# Altium footprint library conn_sw.PCBLIB: 173 footprints (part 5 of 11)
Each footprint in its own frame and in the unit in brackets; x right, y up, seen from the top. Pads: shape width x height; smd on the part's side, far side on the other; paste and mask are expansions set on the pad; w line width, h text height; cw(c..) or ccw(c..) is an arc to the next point about the centre after c.
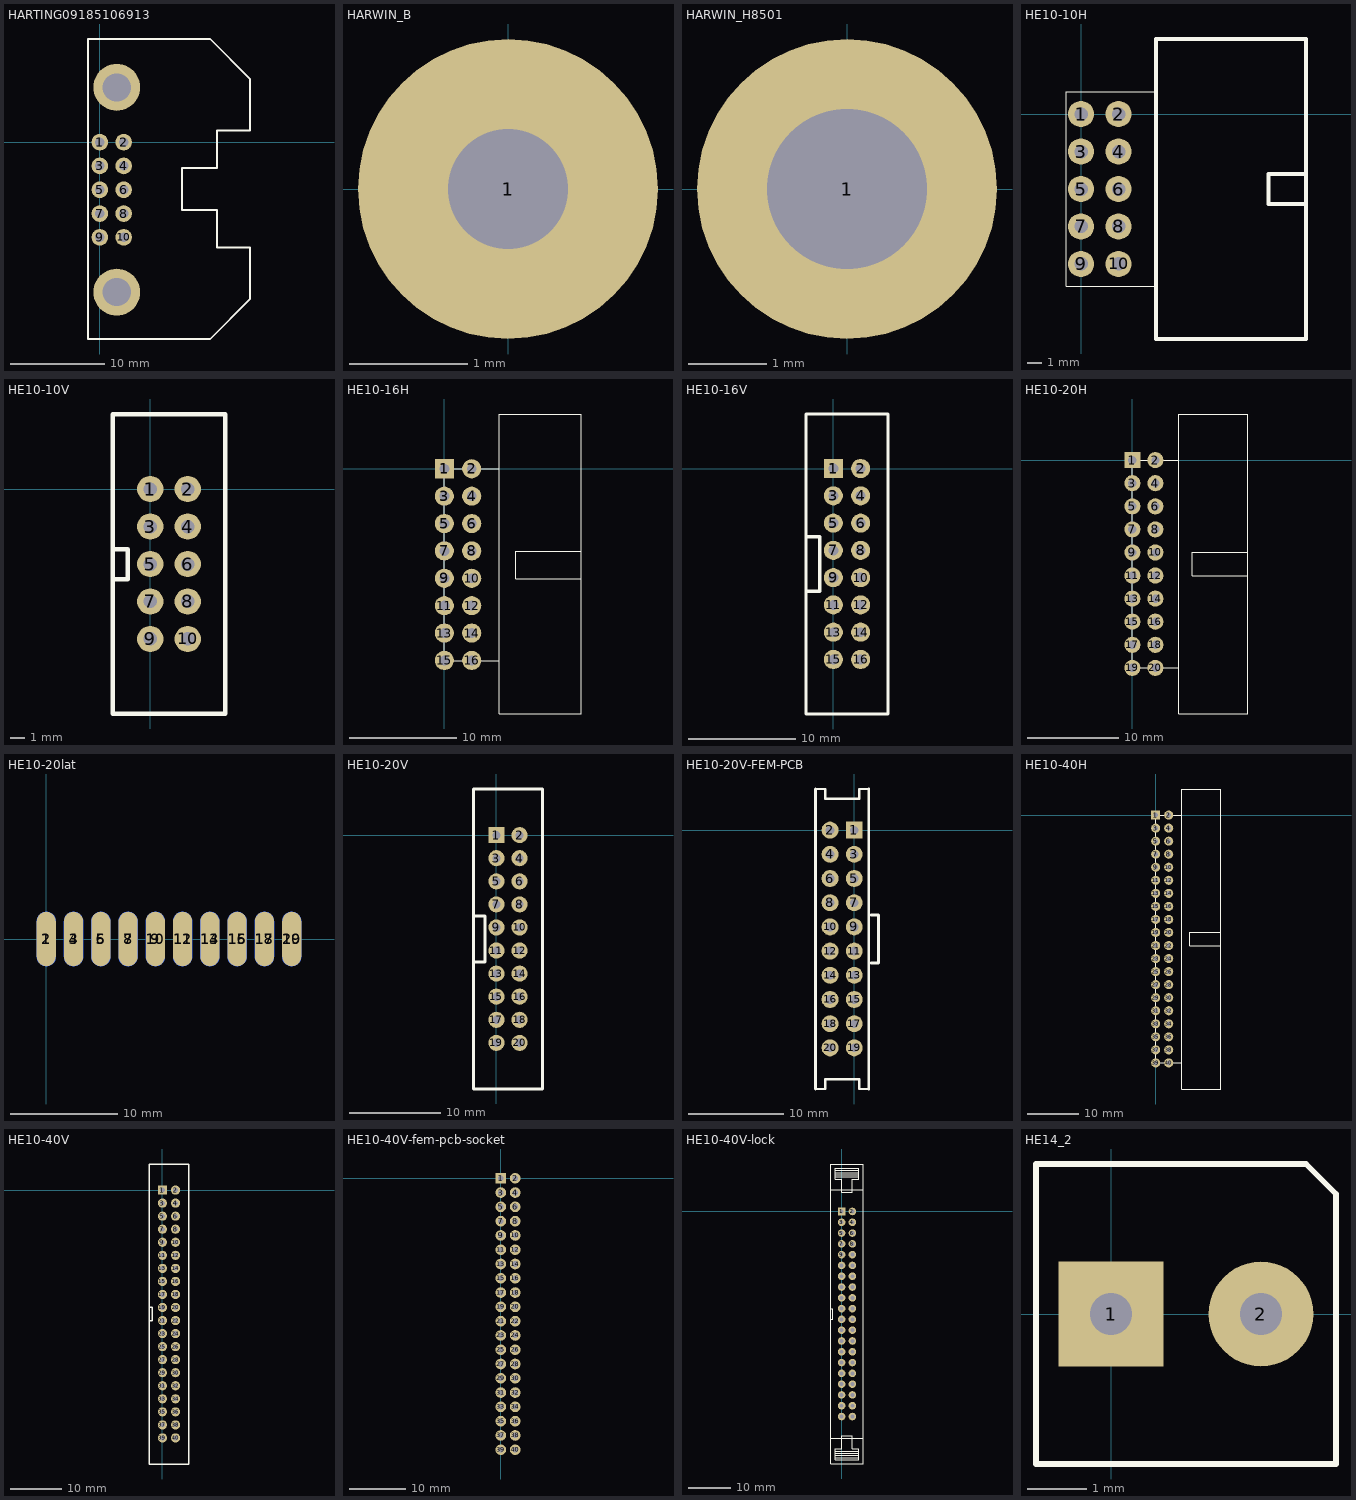
[diagram p4: the footprints below, top view; thin cyan lines are the x and y axes]

## HARTING09185106913 [mil] "HE10 10broches horizontal"
pads (12):
  round 70 hole 39.37: 1(0,0) 2(100,0) 3(0,-100) 4(100,-100) 5(0,-200) 6(100,-200) 7(0,-300) 8(100,-300) 9(0,-400) 10(100,-400)
  round 196.85 hole 118.11: ""(70.87,-629.92) ""(70.87,229.92)
Top Overlay:
  lines w7.87: 462.6,-826.77 629.92,-659.45 ; 462.6,-826.77 629.92,-659.45 ; 462.6,-826.77 344.49,-826.77 -49.21,-826.77 -49.21,108.27 -49.21,433.07 334.65,433.07 344.49,433.07 462.6,433.07 629.92,265.75 629.92,49.21 492.13,49.21 492.13,-108.27 344.49,-108.27 344.49,-285.43 492.13,-285.43 492.13,-433.07 492.13,-442.91 629.92,-442.91 629.92,-659.45

## HARWIN_B [mil]
pads (1):
  round 100 hole 40: 1(0,0)

## HARWIN_H8501 [mil]
pads (1):
  round 150 hole 80: 1(0,0)

## HE10-10H [mil] "HE10 10broches horizontal"
pads (10):
  round 70 hole 36: 1(0,0) 2(100,0) 3(0,-100) 4(100,-100) 5(0,-200) 6(100,-200) 7(0,-300) 8(100,-300) 9(0,-400) 10(100,-400)
Top Overlay:
  lines w0.39: 200,-460 -40,-460 -40,60 200,60
  lines w10: 600,-240 500,-240 500,-160 600,-160 ; 200,-600 200,200 600,200 600,-600 200,-600

## HE10-10V [mil]
pads (10):
  round 70 hole 36: 1(0,0) 2(100,0) 3(0,-100) 4(100,-100) 5(0,-200) 6(100,-200) 7(0,-300) 8(100,-300) 9(0,-400) 10(100,-400)
Top Overlay:
  lines w12: -100,-240 -60,-240 -60,-160 -100,-160 ; -100,-600 -100,200 200,200 200,-600 -100,-600

## HE10-16H [mil]
pads (16):
  rect 70x70 hole 36: 1(0,0)
  round 70 hole 36: 2(100,0) 3(0,-100) 4(100,-100) 5(0,-200) 6(100,-200) 7(0,-300) 8(100,-300) 9(0,-400) 10(100,-400) 11(0,-500) 12(100,-500) 13(0,-600) 14(100,-600) 15(0,-700) 16(100,-700)
Top Overlay:
  lines w3.94: 200,-700.79 150,-700.79 50,-700.79 0,-700.79 0,0 200,0 ; 500,-401.57 260,-401.57 260,-301.57 500,-301.57 ; 200,-895.67 500,-895.67 500,200 200,200 200,-895.67

## HE10-16V [mil]
pads (16):
  rect 70x70 hole 36: 1(0,0)
  round 70 hole 36: 2(100,0) 3(0,-100) 4(100,-100) 5(0,-200) 6(100,-200) 7(0,-300) 8(100,-300) 9(0,-400) 10(100,-400) 11(0,-500) 12(100,-500) 13(0,-600) 14(100,-600) 15(0,-700) 16(100,-700)
Top Overlay:
  lines w12: -100,-550 -100,-500 ; -100,-450 -50,-450 -50,-250 -100,-250 ; -100,-900 -100,200 200,200 200,-900 -100,-900

## HE10-20H [mil]
pads (20):
  rect 70x70 hole 36: 1(0,0)
  round 70 hole 36: 2(100,0) 3(0,-100) 4(100,-100) 5(0,-200) 6(100,-200) 7(0,-300) 8(100,-300) 9(0,-400) 10(100,-400) 11(0,-500) 12(100,-500) 13(0,-600) 14(100,-600) 15(0,-700) 16(100,-700) 17(0,-800) 18(100,-800) 19(0,-900) 20(100,-900)
Top Overlay:
  lines w3.94: 200,-900 0,-900 0,0 200,0 ; 500,-500 260,-500 260,-400 500,-400 ; 200,-1100 200,200 500,200 500,-1100 200,-1100

## HE10-20lat [mil]
pads (20):
  oval 70x200 smd far side: 1(0,0) 3(100,0) 5(200,0) 7(300,0) 9(400,0) 11(500,0) 13(600,0) 15(700,0) 17(800,0) 19(900,0)
  oval 70x200 smd: 2(0,0) 4(100,0) 6(200,0) 8(300,0) 10(400,0) 12(500,0) 14(600,0) 16(700,0) 18(800,0) 20(900,0)

## HE10-20V [mil]
pads (20):
  rect 70x70 hole 36: 1(0,0)
  round 70 hole 36: 2(100,0) 3(0,-100) 4(100,-100) 5(0,-200) 6(100,-200) 7(0,-300) 8(100,-300) 9(0,-400) 10(100,-400) 11(0,-500) 12(100,-500) 13(0,-600) 14(100,-600) 15(0,-700) 16(100,-700) 17(0,-800) 18(100,-800) 19(0,-900) 20(100,-900)
Top Overlay:
  lines w12: -100,-550 -50,-550 -50,-350 -100,-350 ; -100,-1100 -100,200 200,200 200,-1100 -100,-1100

## HE10-20V-FEM-PCB [mil]
pads (20):
  rect 70x70 hole 36: 1(0,0)
  round 70 hole 36: 2(-100,0) 3(0,-100) 4(-100,-100) 5(0,-200) 6(-100,-200) 7(0,-300) 8(-100,-300) 9(0,-400) 10(-100,-400) 11(0,-500) 12(-100,-500) 13(0,-600) 14(-100,-600) 15(0,-700) 16(-100,-700) 17(0,-800) 18(-100,-800) 19(0,-900) 20(-100,-900)
Top Overlay:
  lines w10: -160,-1070 -120,-1070 -120,-1030 20,-1030 20,-1070 60,-1070 ; -160,170 -120,170 -120,130 20,130 20,170 60,170
  lines w12: -160,-1070 -160,170 ; 60,-1070 60,170 ; 70,-550 100,-550 100,-350 70,-350

## HE10-40H [mil]
pads (40):
  rect 70x70 hole 36: 1(0,0)
  round 70 hole 36: 2(100,0) 3(0,-100) 4(100,-100) 5(0,-200) 6(100,-200) 7(0,-300) 8(100,-300) 9(0,-400) 10(100,-400) 11(0,-500) 12(100,-500) 13(0,-600) 14(100,-600) 15(0,-700) 16(100,-700) 17(0,-800) 18(100,-800) 19(0,-900) 20(100,-900) 21(0,-1000) 22(100,-1000) 23(0,-1100) 24(100,-1100) 25(0,-1200) 26(100,-1200) 27(0,-1300) 28(100,-1300) 29(0,-1400) 30(100,-1400) 31(0,-1500) 32(100,-1500) 33(0,-1600) 34(100,-1600) 35(0,-1700) 36(100,-1700) 37(0,-1800) 38(100,-1800) 39(0,-1900) 40(100,-1900)
Top Overlay:
  lines w3.94: 200,-1900 0,-1900 0,0 200,0 ; 500,-1000 260,-1000 260,-900 500,-900 ; 200,-2100 200,200 500,200 500,-2100 200,-2100

## HE10-40V [mil]
pads (40):
  rect 70x70 hole 36: 1(0,0)
  round 70 hole 36: 2(100,0) 3(0,-100) 4(100,-100) 5(0,-200) 6(100,-200) 7(0,-300) 8(100,-300) 9(0,-400) 10(100,-400) 11(0,-500) 12(100,-500) 13(0,-600) 14(100,-600) 15(0,-700) 16(100,-700) 17(0,-800) 18(100,-800) 19(0,-900) 20(100,-900) 21(0,-1000) 22(100,-1000) 23(0,-1100) 24(100,-1100) 25(0,-1200) 26(100,-1200) 27(0,-1300) 28(100,-1300) 29(0,-1400) 30(100,-1400) 31(0,-1500) 32(100,-1500) 33(0,-1600) 34(100,-1600) 35(0,-1700) 36(100,-1700) 37(0,-1800) 38(100,-1800) 39(0,-1900) 40(100,-1900)
Top Overlay:
  lines w10: -100,-1000 -80,-1000 -80,-990 -80,-900 -100,-900 ; -100,-2100 200,-2100 200,200 -100,200 -100,-2100

## HE10-40V-fem-pcb-socket [mm]
pads (40):
  rect 1.9x1.9 hole 1: 1(0,0)
  round 1.9 hole 1: 2(2.54,0) 3(0,-2.54) 4(2.54,-2.54) 5(0,-5.08) 6(2.54,-5.08) 7(0,-7.62) 8(2.54,-7.62) 9(0,-10.16) 10(2.54,-10.16) 11(0,-12.7) 12(2.54,-12.7) 13(0,-15.24) 14(2.54,-15.24) 15(0,-17.78) 16(2.54,-17.78) 17(0,-20.32) 18(2.54,-20.32) 19(0,-22.86) 20(2.54,-22.86) 21(0,-25.4) 22(2.54,-25.4) 23(0,-27.94) 24(2.54,-27.94) 25(0,-30.48) 26(2.54,-30.48) 27(0,-33.02) 28(2.54,-33.02) 29(0,-35.56) 30(2.54,-35.56) 31(0,-38.1) 32(2.54,-38.1) 33(0,-40.64) 34(2.54,-40.64) 35(0,-43.18) 36(2.54,-43.18) 37(0,-45.72) 38(2.54,-45.72) 39(0,-48.26) 40(2.54,-48.26)
Bottom Overlay:
  lines w0.254: -2.54,-25.4 -2.032,-25.4 -2.032,-25.146 -2.032,-22.86 -2.54,-22.86 ; -2.54,-50.8 -2.54,2.54 5.08,2.54 5.08,-50.8 -2.54,-50.8

## HE10-40V-lock [mil]
pads (40):
  rect 70x70 hole 36: 1(0,0)
  round 70 hole 36: 2(100,0) 3(0,-100) 4(100,-100) 5(0,-200) 6(100,-200) 7(0,-300) 8(100,-300) 9(0,-400) 10(100,-400) 11(0,-500) 12(100,-500) 13(0,-600) 14(100,-600) 15(0,-700) 16(100,-700) 17(0,-800) 18(100,-800) 19(0,-900) 20(100,-900) 21(0,-1000) 22(100,-1000) 23(0,-1100) 24(100,-1100) 25(0,-1200) 26(100,-1200) 27(0,-1300) 28(100,-1300) 29(0,-1400) 30(100,-1400) 31(0,-1500) 32(100,-1500) 33(0,-1600) 34(100,-1600) 35(0,-1700) 36(100,-1700) 37(0,-1800) 38(100,-1800) 39(0,-1900) 40(100,-1900)
Top Overlay:
  lines w5: -60,-2240 160,-2240 160,-2260 -60,-2260 -60,-2280 160,-2280 ; -60,-2220 160,-2220 ; -60,320 160,320 ; -60,380 160,380 160,360 -60,360 -60,340 160,340 ; -100,-2100 200,-2100 ; -100,-2100 -100,200 ; -100,-2100 200,-2100 ; -100,-2100 -100,-2340 200,-2340 200,-2100 ; -100,200 200,200 ; -100,200 -100,440 200,440 200,200 ; 200,-2100 200,200 ; -60,-2300 160,-2300 160,-2200 100,-2200 100,-2080 0,-2080 0,-2200 -60,-2200 -60,-2300 ; -60,300 0,300 0,180 100,180 100,300 160,300 160,400 -60,400 -60,300
  lines w10: -100,-1000 -80,-1000 -80,-990 -80,-900 -100,-900

## HE14_2 [mil]
pads (2):
  rect 70x70 hole 28: 1(0,0)
  round 70 hole 28: 2(100,0)
Top Overlay:
  lines w3.94: -50,-100 -50,100 130,100 150,80 150,-100 -50,-100